# EAGLE library part YM2413 (library yamaha)
Texas Instruments SN76489
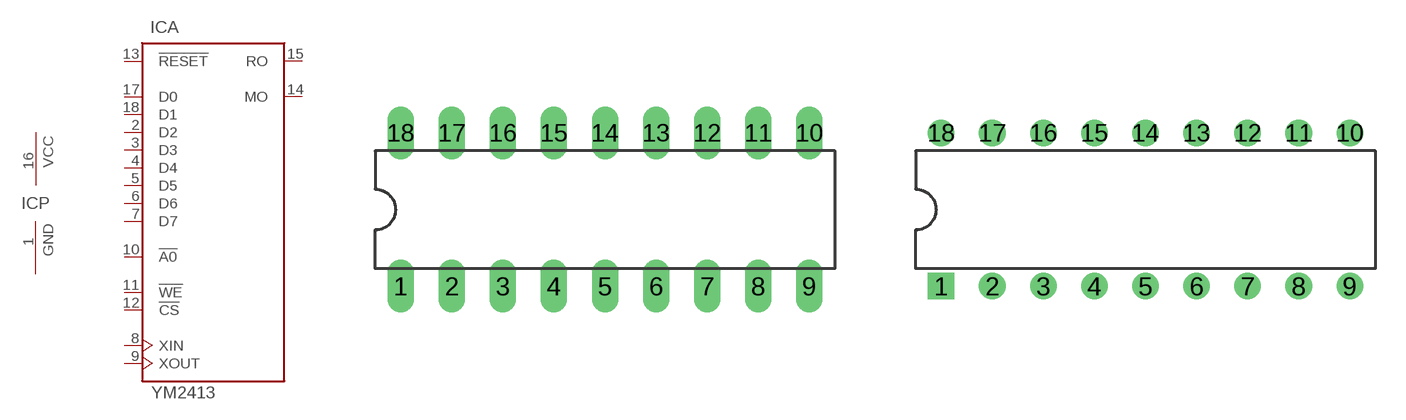
[diagram p0: symbol with the pads of DIL18; footprints DIL18, DIL18-RP]

Designator prefix IC; gates A=YM2413 P=PWR-GND

## YM2413  [DIL18]
1  P:GND  pwr
2  A:D2  in
3  A:D3  in
4  A:D4  in
5  A:D5  in
6  A:D6  in
7  A:D7  in
8  A:XIN  in
9  A:XOUT  in
10  A:!A0  in
11  A:!WE  in
12  A:!CS  in
13  A:!RESET  in
14  A:MO  out
15  A:RO  out
16  P:VCC  pwr
17  A:D0  in
18  A:D1  in

## YM2413R  [DIL18-RP]
Pads as for DIL18

## Footprint DIL18 (pad centres in mm)
Dual In Line Package
drill 0.813 long: 1 -10.16,-3.81; 2 -7.62,-3.81; 3 -5.08,-3.81; 4 -2.54,-3.81; 5 0,-3.81; 6 2.54,-3.81; 7 5.08,-3.81; 8 7.62,-3.81; 9 10.16,-3.81; 10 10.16,3.81; 11 7.62,3.81; 12 5.08,3.81; 13 2.54,3.81; 14 0,3.81; 15 -2.54,3.81; 16 -5.08,3.81; 17 -7.62,3.81; 18 -10.16,3.81

## Footprint DIL18-RP (pad centres in mm)
Dual In Line Package
drill 0.813 square: 1 -10.16,-3.81
drill 0.813: 2 -7.62,-3.81; 3 -5.08,-3.81; 4 -2.54,-3.81; 5 0,-3.81; 6 2.54,-3.81; 7 5.08,-3.81; 8 7.62,-3.81; 9 10.16,-3.81; 10 10.16,3.81; 11 7.62,3.81; 12 5.08,3.81; 13 2.54,3.81; 14 0,3.81; 15 -2.54,3.81; 16 -5.08,3.81; 17 -7.62,3.81; 18 -10.16,3.81